# Altium footprint library PAL.PcbLib: 183 footprints (part 11 of 12)
Each footprint in its own frame and in the unit in brackets; x right, y up, seen from the top. Pads: shape width x height; smd on the part's side, far side on the other; paste and mask are expansions set on the pad; w line width, h text height; cw(c..) or ccw(c..) is an arc to the next point about the centre after c.
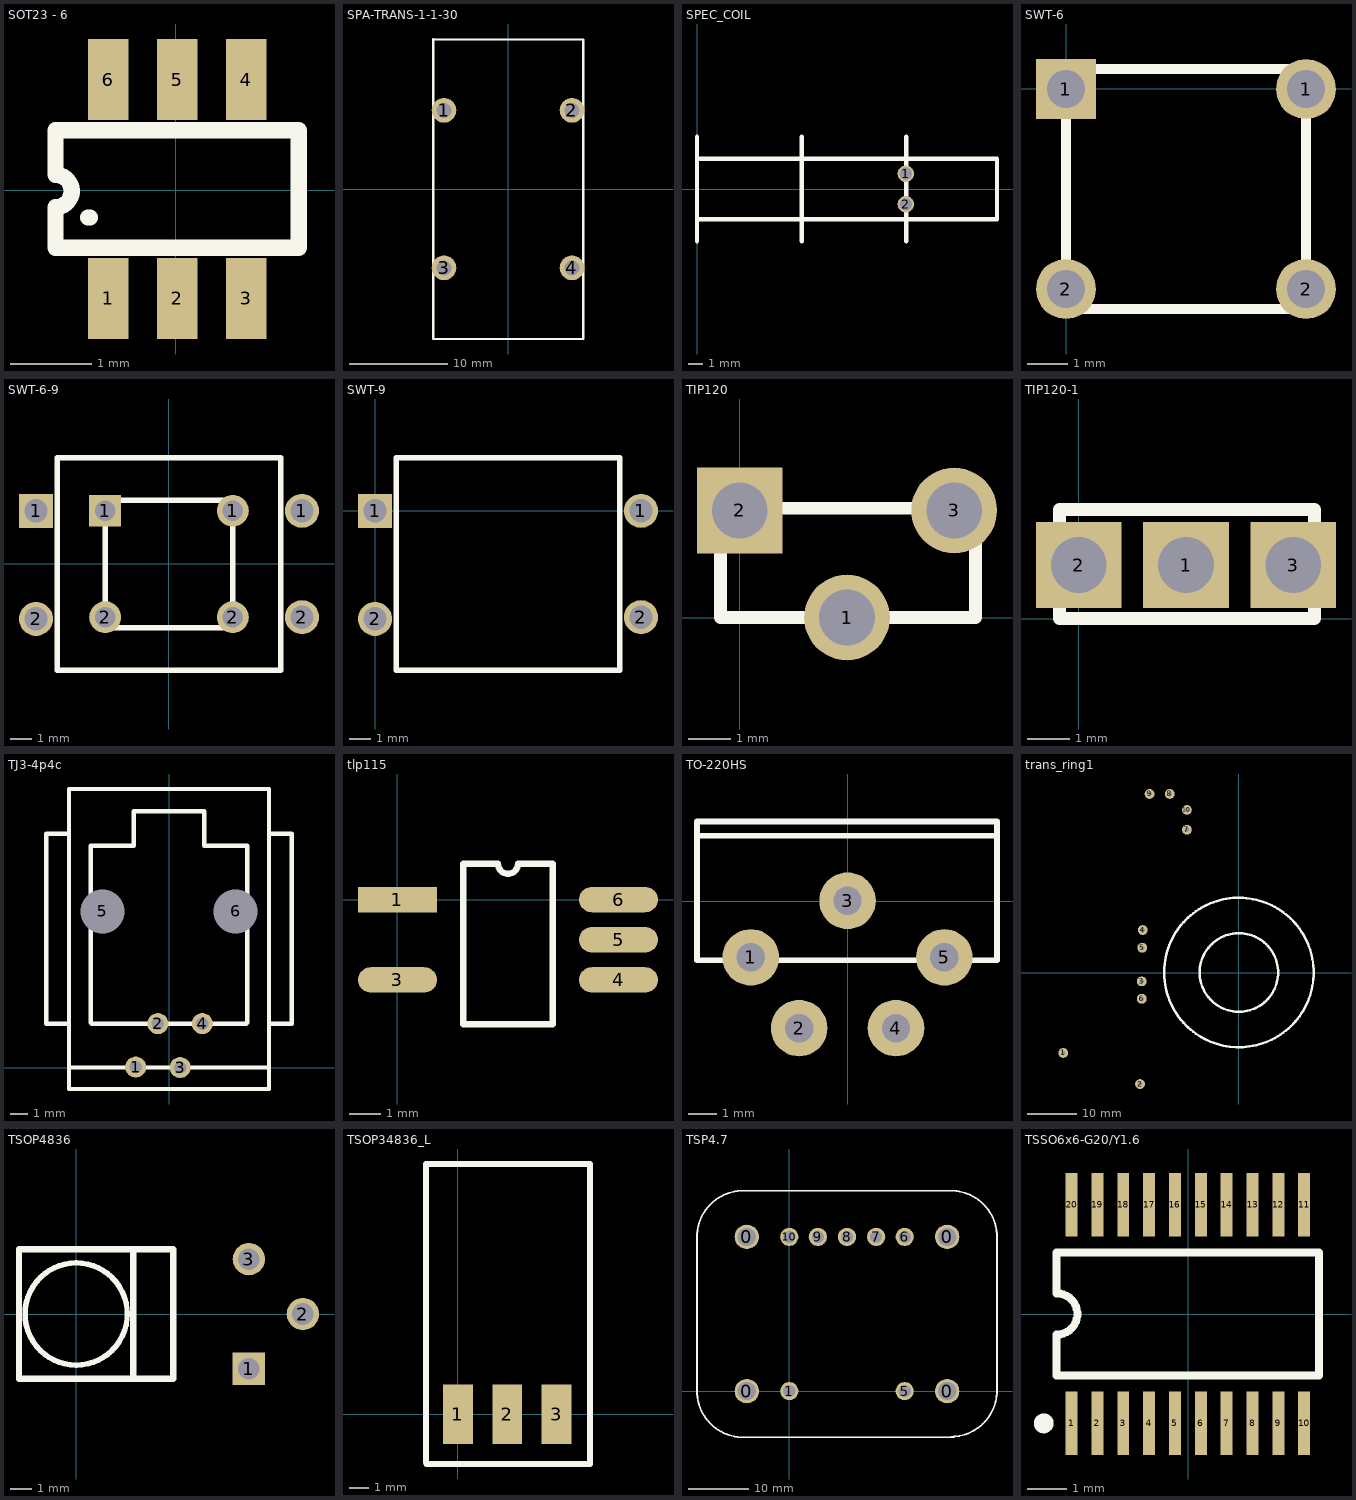
[diagram p10: the footprints below, top view; thin cyan lines are the x and y axes]

## SOT23 - 6 [mm]
pads (6):
  rect 0.5x1 smd: 1(-0.835,-1.337) 2(0.015,-1.337) 3(0.865,-1.337) 4(0.865,1.363) 5(0.015,1.363) 6(-0.835,1.363)
Top Overlay:
  lines w0.2: -1.085,-0.337 -1.06,-0.337 ; -1.485,-0.712 -1.485,-0.212 ccw(c-1.485,-0.012) -1.485,0.188 -1.485,0.738 1.515,0.738 1.515,-0.712 -1.485,-0.712

## SPA-TRANS-1-1-30 [mm]
pads (4):
  round 2.5 hole 1.5: 1(-6.5,8) 2(6.5,8) 3(-6.5,-8) 4(6.5,-8)
Top Overlay:
  lines w0.25: -7.6,-15.225 -7.6,15.25 -7.55,15.2 7.625,15.2 7.625,-15.225 -7.6,-15.225

## SPEC_COIL [mm]
pads (2):
  round 1.1 hole 0.85: 1(13.97,1.016) 2(13.97,-1.016)
Top Overlay:
  lines w0.3: 0,-3.5 0,3.5 ; 0,-2.032 20.066,-2.032 20.066,2.032 0,2.032 ; 7,-3.5 7,3.5 ; 14,-3.5 14,3.5

## SWT-6 [mm]
pads (4):
  rect 1.5x1.5 hole 0.95: 1(-0.009,-0.001)
  round 1.5 hole 0.95: 1(5.991,-0.001) 2(-0.009,-5.001) 2(5.991,-5.001)
Top Overlay:
  lines w0.254: -0.009,-5.501 -0.009,0.499 5.991,0.499 5.991,-5.501 -0.009,-5.501

## SWT-6-9 [mm]
pads (8):
  rect 1.6x1.6 hole 1.1: 1(-6.241,2.491)
  rect 1.5x1.5 hole 0.95: 1(-2.991,2.493)
  round 1.5 hole 0.95: 1(3.009,2.493) 2(-2.991,-2.507) 2(3.009,-2.507)
  round 1.6 hole 1.1: 1(6.259,2.491) 2(-6.241,-2.589) 2(6.259,-2.509)
Top Overlay:
  lines w0.254: -5.241,-5.009 5.259,-5.009 5.259,4.991 -5.241,4.991 -5.241,-5.009 ; -2.991,-3.007 3.009,-3.007 3.009,2.993 -2.991,2.993 -2.991,-3.007

## SWT-9 [mm]
pads (4):
  rect 1.6x1.6 hole 1.1: 1(-0.009,-0.003)
  round 1.6 hole 1.1: 1(12.491,-0.003) 2(-0.009,-5.083) 2(12.491,-5.003)
Top Overlay:
  lines w0.254: 0.991,-7.503 11.491,-7.503 11.491,2.497 0.991,2.497 0.991,-7.503

## TIP120 [mm]
pads (3):
  round 2 hole 1.3: 1(2.5,0) 3(5,2.5)
  rect 2x2 hole 1.3: 2(0,2.5)
Top Overlay:
  lines w0.3: -0.45,0 -0.45,2.55 5.5,2.55 5.5,0 0,0 -0.45,0

## TIP120-1 [mm]
pads (3):
  rect 2x2 hole 1.3: 1(2.5,1.25) 2(0,1.25) 3(5,1.25)
Top Overlay:
  lines w0.3: -0.45,0 0,0 5.5,0 5.5,2.55 -0.45,2.55 -0.45,0

## TJ3-4p4c [mm]
pads (6):
  round 1.2 hole 0.7: 1(-1.9,0.025) 2(-0.635,2.5) 3(0.635,0) 4(1.9,2.5)
  round 1.2 hole 2.5: 5(-3.8,8.9) 6(3.8,8.9)
Top Overlay:
  lines w0.254: -5.7,2.5 -7,2.5 -7,13.325 -5.7,13.325 ; -0.025,2.5 -4.4,2.5 -4.45,2.55 -4.45,12.65 -2,12.65 -2,14.6 0,14.6 2,14.6 2,12.65 4.45,12.65 4.45,2.55 4.4,2.5 0.025,2.5 ; 5.7,2.5 7,2.5 7,13.325 5.7,13.325 ; -5.7,0 -5.7,15.875 0,15.875 5.7,15.875 5.7,0 ; -5.7,0 0,0 5.7,0 ; -5.7,0 -5.7,-1.225 5.7,-1.225 5.7,0

## tlp115 [mm]
pads (5):
  rect 2.5x0.8 smd: 1(0.001,-0.004)
  oval 2.5x0.8 smd: 3(0.001,-2.544) 4(7.001,-2.544) 5(7.001,-1.274) 6(7.001,-0.004)
Top Overlay:
  lines w0.2: 2.086,-3.949 2.086,1.131 3.183,1.131 ccw(c3.501,1.131) 3.818,1.131 4.916,1.131 4.916,-3.949 2.086,-3.949

## TO-220HS [mm]
pads (5):
  round 2 hole 1: 1(-3.429,-1.989) 2(-1.719,-4.489) 3(-0.009,0.011) 4(1.701,-4.489) 5(3.411,-1.989)
Top Overlay:
  lines w0.2: -5.329,2.311 5.271,2.311 ; -5.329,-2.089 5.271,-2.089 5.271,2.811 -5.329,2.811 -5.329,-2.089

## trans_ring1 [mm]
pads (10):
  round 2 hole 1: 1(-35.8,-16.39) 2(-20.15,-22.74) 3(-19.8,-1.79) 4(-19.6,8.66) 5(-19.7,5.06) 6(-19.8,-5.34) 8(-14.1,36.41) 9(-18.2,36.41) 10(-10.6,33.16)
  round 2 hole 1 unplated: 7(-10.6,29.11)
Top Overlay:
  circle w0.5: c0,0.01 r15.24
  circle w0.5: c0,0.01 r8.001

## TSOP4836 [mm]
pads (3):
  rect 1.5x1.5 hole 1: 1(8,-2.54)
  round 1.5 hole 1: 2(10.5,0) 3(8,2.54)
Top Overlay:
  circle w0.254: c0,0 r2.369
  lines w0.3: 2.65,-3 2.65,3 ; -2.65,-3 4.5,-3 4.5,3 -2.65,3 -2.65,-3

## TSOP34836_L [mm]
pads (3):
  rect 1.5x3 smd: 1(0,0) 2(2.5,0) 3(5,0)
Top Overlay:
  lines w0.3: -1.625,-2.45 -1.625,12.7 6.7,12.7 6.7,-2.525 -1.6,-2.525

## TSP4.7 [mm]
pads (11):
  round 4 hole 3: 0(-6.999,0.009) 0(-6.999,25.409) 0(26.001,0.009) 0(26.001,25.409)
  round 3 hole 2: 1(0.001,0.009) 5(19.001,0.009) 6(19.001,25.409) 7(14.301,25.409) 8(9.501,25.409) 9(4.701,25.409) 10(0.001,25.409)
Top Overlay:
  lines w0.3: 26.601,-7.491 ccw(c26.601,0.109) 34.201,0.109 ; 27.101,-7.591 -7.599,-7.591 cw(c-7.599,0.009) -15.199,0.009 -15.199,25.409 cw(c-7.599,25.409) -7.599,33.009 26.601,33.009 cw(c26.601,25.409) 34.201,25.409 34.201,0.009

## TSSO6x6-G20/Y1.6 [mm]
pads (20):
  rect 0.3x1.6 smd: 1(-2.934,-2.743) 2(-2.284,-2.743) 3(-1.634,-2.743) 4(-0.984,-2.743) 5(-0.334,-2.743) 6(0.316,-2.743) 7(0.966,-2.743) 8(1.616,-2.743) 9(2.266,-2.743) 10(2.916,-2.743) 11(2.916,2.757) 12(2.266,2.757) 13(1.616,2.757) 14(0.966,2.757) 15(0.316,2.757) 16(-0.334,2.757) 17(-0.984,2.757) 18(-1.634,2.757) 19(-2.284,2.757) 20(-2.934,2.757)
Top Overlay:
  circle w0.25: c-3.634,-2.743 r0.125
  lines w0.2: -3.309,-1.543 -3.309,-0.513 ccw(c-3.309,0.007) -3.309,0.527 -3.309,1.557 3.291,1.557 3.291,-1.543 -3.309,-1.543